# EAGLE library part TB6612_DRIVER (library freskin)
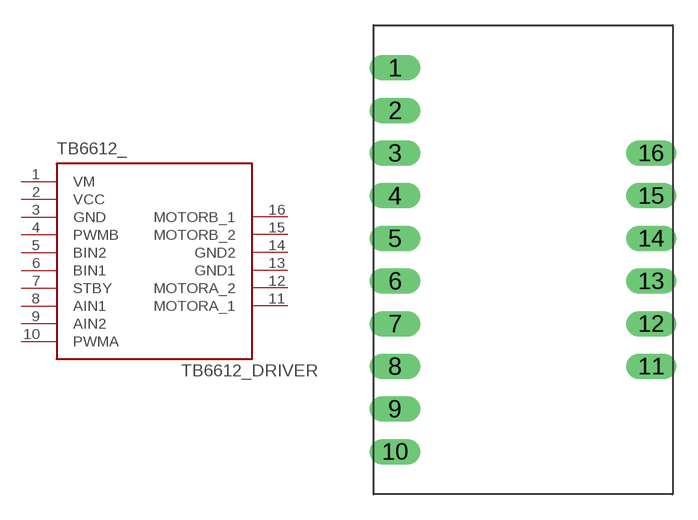
[diagram p1: symbol with the pads of TB6612_DRIVER; footprint TB6612_DRIVER]

Designator prefix TB6612_

## TB6612_DRIVER  [TB6612_DRIVER]
1  VM
2  VCC
3  GND
4  PWMB
5  BIN2
6  BIN1
7  STBY
8  AIN1
9  AIN2
10  PWMA
11  MOTORA_1
12  MOTORA_2
13  GND1
14  GND2
15  MOTORB_2
16  MOTORB_1

## Footprint TB6612_DRIVER (pad centres in mm)
drill 1 pad 1.422 long: 1 -3.81,5.08; 2 -3.81,2.54; 3 -3.81,0; 4 -3.81,-2.54; 5 -3.81,-5.08; 6 -3.81,-7.62; 7 -3.81,-10.16; 8 -3.81,-12.7; 9 -3.81,-15.24; 10 -3.81,-17.78; 11 11.43,-12.7; 12 11.43,-10.16; 13 11.43,-7.62; 14 11.43,-5.08; 15 11.43,-2.54; 16 11.43,0